# EAGLE library part LM555 (library HyTechDevices - Copy)
Texas Instruments NA555 timer. Data sheet <http://www.ti.com/lit/ds/symlink/se555.pdf>
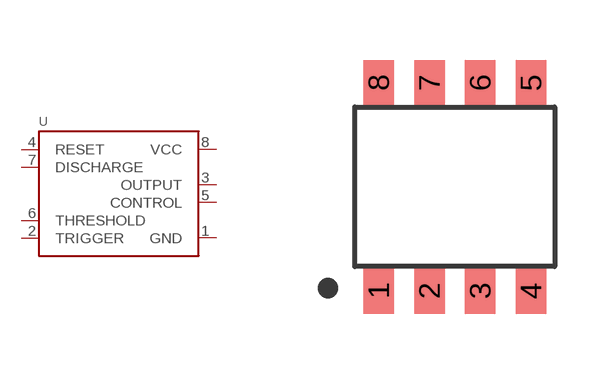
[diagram p20: symbol with the pads of SOIC-08; footprint SOIC-08]

Designator prefix -

## LM555  [SOIC-08]
1  GND  pwr
2  TRIGGER  in
3  OUTPUT  out
4  RESET  in
5  CONTROL  in
6  THRESHOLD  in
7  DISCHARGE  in
8  VCC  pwr

## Footprint SOIC-08 (pad centres in mm)
SOIC-8 Datasheet <https://www.analog.com/media/en/package-pcb-resources/package/pkg_pdf/ltc-legacy-soic/05081610_G_SO8.pdf>
smd 0.762 x 1.143: 1 -1.905,-2.603; 2 -0.635,-2.603; 3 0.635,-2.603; 4 1.905,-2.603; 5 1.905,2.603; 6 0.635,2.603; 7 -0.635,2.603; 8 -1.905,2.603